# Altium footprint library KN_ECART.PcbLib: 7 footprints
Each footprint in its own frame and in the unit in brackets; x right, y up, seen from the top. Pads: shape width x height; smd on the part's side, far side on the other; paste and mask are expansions set on the pad; w line width, h text height; cw(c..) or ccw(c..) is an arc to the next point about the centre after c.
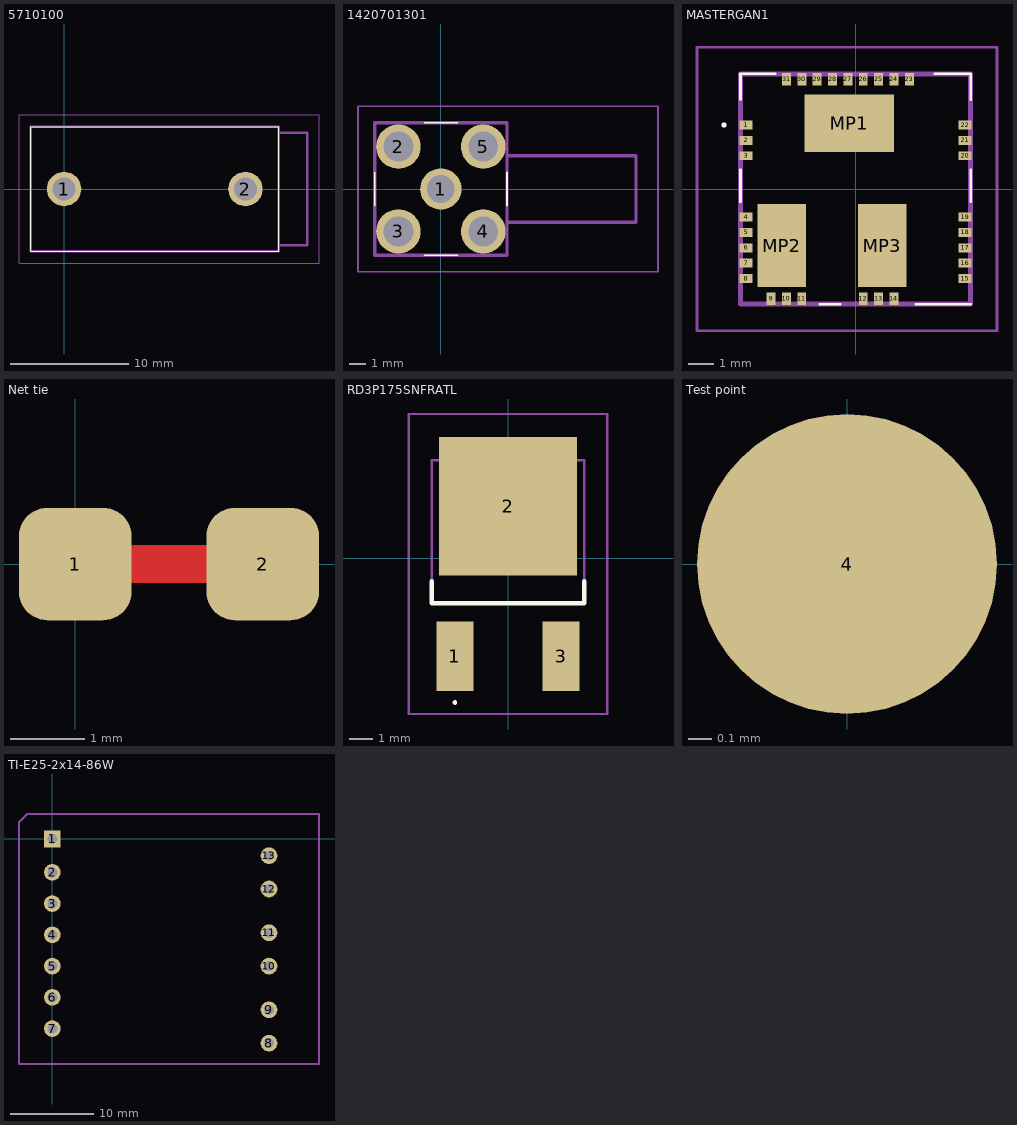
[diagram p0: the footprints below, top view; thin cyan lines are the x and y axes]

## 5710100 [mm]
pads (2):
  round 2.91 hole 1.94: 1(0,0) 2(15.3,0)
Top Overlay:
  lines w0.1: -2.8,-5.25 18.1,-5.25 18.1,5.25 -2.8,5.25 -2.8,-5.25
Mechanical 13:
  lines w0.2: 18.1,-4.75 20.5,-4.75 20.5,4.75 18.1,4.75 ; -2.8,-5.25 18.1,-5.25 18.1,5.25 -2.8,5.25 -2.8,-5.25
Mechanical 15:
  lines w0.1: -3.8,-6.25 21.5,-6.25 21.5,6.25 -3.8,6.25 -3.8,-6.25
3D body "571-0100.stp": height 12.4, standoff -5.5, extent -2.76,-4.9 20.54,5.6

## 1420701301 [mil]
pads (5):
  round 97.52 hole 65: 1(0,0)
  round 105 hole 70: 2(-100,100) 3(-100,-100) 4(100,-100) 5(100,100)
Top Overlay:
  lines w3.94: -155.98,-39.37 -155.98,39.37 ; -39.37,-155.98 39.37,-155.98 ; -39.37,155.98 39.37,155.98 ; 155.98,-39.37 155.98,39.37
Mechanical 13:
  lines w7.87: 157.48,-78.74 460,-78.74 460,78.74 157.48,78.74 ; -155.98,-155.98 155.98,-155.98 155.98,155.98 -155.98,155.98 -155.98,-155.98
Mechanical 15:
  lines w3.94: -195.35,-195.35 511.81,-195.35 511.81,195.35 -195.35,195.35 -195.35,-195.35
3D body "142-0701-301.stp": height 377.76, standoff -152.24, extent -149.7,-156 466.3,156

## MASTERGAN1 [mm]
pads (34):
  rect 0.5x0.35 smd: 1(-4.28,2.5) 2(-4.28,1.9) 3(-4.28,1.3) 4(-4.28,-1.1) 5(-4.28,-1.7) 6(-4.28,-2.3) 7(-4.28,-2.9) 8(-4.28,-3.5) 15(4.28,-3.5) 16(4.28,-2.9) 17(4.28,-2.3) 18(4.28,-1.7) 19(4.28,-1.1) 20(4.28,1.3) 21(4.28,1.9) 22(4.28,2.5)
  rect 0.35x0.5 smd: 9(-3.305,-4.29) 10(-2.705,-4.29) 11(-2.105,-4.29) 12(0.3,-4.29) 13(0.9,-4.29) 14(1.5,-4.29) 23(2.1,4.29) 24(1.5,4.29) 25(0.9,4.29) 26(0.3,4.29) 27(-0.3,4.29) 28(-0.9,4.29) 29(-1.5,4.29) 30(-2.1,4.29) 31(-2.7,4.29)
  rect 3.5x2.26 smd: MP1(-0.25,2.57)
  rect 1.9x3.25 smd: MP2(-2.88,-2.215) MP3(1.05,-2.215)
Top Overlay:
  lines w0.1: -4.5,4.5 -3.15,4.5 -4.5,4.5 ; -4.5,4.5 -4.5,3.5 -4.5,4.5 ; 4.5,4.5 3.1,4.5 4.5,4.5 ; 4.5,4.5 4.5,3.5 4.5,4.5 ; -5.2,2.5 cw(c-5.15,2.5) -5.1,2.5 cw(c-5.15,2.5) -5.2,2.5 ; -4.5,-0.5 -4.5,0.75 -4.5,-0.5 ; -1.4,-4.5 -0.6,-4.5 -1.4,-4.5 ; 2.35,-4.5 4.5,-4.5 2.35,-4.5 ; 4.5,-0.5 4.5,0.75 4.5,-0.5
Mechanical 13:
  lines w0.2: -4.5,-4.5 4.5,-4.5 4.5,4.5 -4.5,4.5 -4.5,-4.5
Mechanical 15:
  lines w0.1: -6.2,-5.54 5.53,-5.54 5.53,5.54 -6.2,5.54 -6.2,-5.54
3D body "MASTERGAN1.stp": height 1.1, standoff 0, extent -4.5,-4.5 4.5,4.5

## Net tie [mil] "Net tie - SMD short"
pads (2):
  rrect50% 60x60 smd: 1(0,0) 2(100,0)
Top Layer:
  region: 20,10 80,10 80,-10 20,-10

## RD3P175SNFRATL [mm]
pads (3):
  rect 1.6x3 smd: 1(-2.3,-4.25) 3(2.3,-4.25)
  rect 6x6 smd: 2(0,2.25)
Top Overlay:
  lines w0.1: -2.3,-6.3 cw(c-2.3,-6.25) -2.3,-6.2 cw(c-2.3,-6.25) -2.3,-6.3
  lines w0.2: -3.3,-1 -3.3,-1.95 3.3,-1.95 3.3,-1
Mechanical 13:
  lines w0.1: -3.3,-1.95 3.3,-1.95 3.3,4.25 -3.3,4.25 -3.3,-1.95
Mechanical 15:
  lines w0.1: -4.3,-6.75 4.3,-6.75 4.3,6.25 -4.3,6.25 -4.3,-6.75
3D body "RB095BGE-30TL.stp": height 2.5, standoff 0, extent -3.296,-5.201 3.304,4.699

## Test point [mm] "Test point SMD, 50 mil"
pads (1):
  round 1.27 smd: 4(0,0)

## TI­E25­2x14­86W [mm] "tRANSFORMER"
pads (13):
  rect 2x2 hole 1.2: 1(0,0)
  round 2 hole 1.2: 2(0,-4) 3(0,-7.75) 4(0,-11.5) 5(0,-15.25) 6(0,-19) 7(0,-22.75) 8(26,-24.5) 9(26,-20.5) 10(26,-15.25) 11(26,-11.25) 12(26,-6) 13(26,-2)
Mechanical 15:
  lines w0.254: -4,-27 -4,1 -4,2 -3,3 32,3 32,-27 26,-27 0,-27 -4,-27
3D body "E25_11-K-H-13P-WZ2589_z³o¿enie.STEP": height 25.55, standoff -3.55, extent -3.275,-27.2 29.275,0.5